# EAGLE library part DORJI (library dorji)
DRA818V 2-Meter transceiver modul
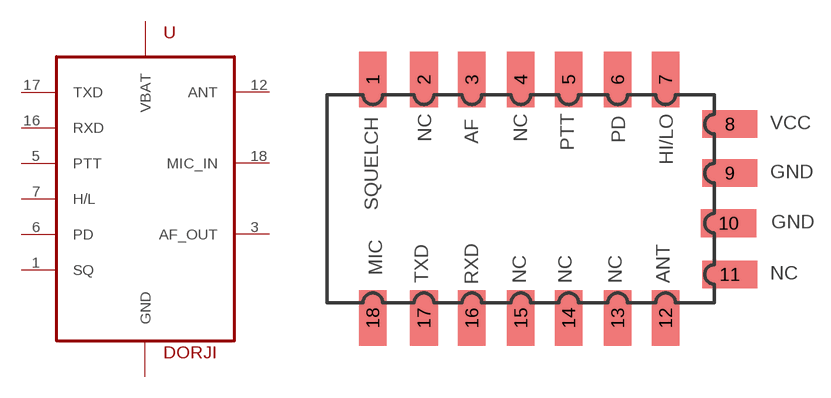
[diagram p0: symbol with the pads of DORJI; footprint DORJI]

Designator prefix -

## DORJIDRA818V  [DORJI]
1  SQ
3  AF_OUT
5  PTT
6  PD
7  H/L
8  VBAT
9  GND
10  GND
12  ANT
16  RXD
17  TXD
18  MIC_IN

## Footprint DORJI (pad centres in mm)
smd 2.54 x 5.08: 1 4.2,20.5; 2 8.9,20.5; 3 13.3,20.5; 4 17.8,20.5; 5 22.2,20.5; 6 26.7,20.5; 7 31.1,20.5; 12 31.1,-1.4; 13 26.7,-1.4; 14 22.2,-1.4; 15 17.8,-1.4; 16 13.3,-1.4; 17 8.9,-1.4; 18 4.2,-1.4
smd 5.08 x 2.54: 8 37,16.4; 9 37,11.9; 10 36.9,7.3; 11 37,2.6